# EAGLE library part USB-MICRO-B (library wimax-cpe)
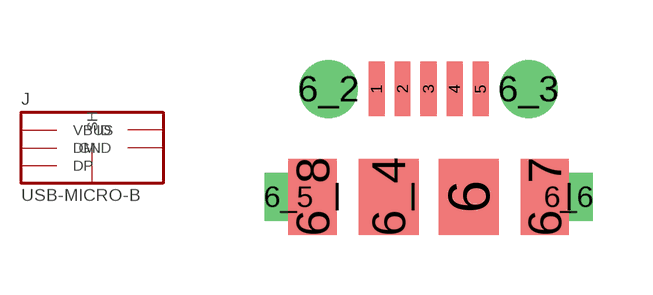
[diagram p0: symbol with the pads of USBMB; footprint USBMB]

Designator prefix J

## USB-MICRO-B  [USBMB]
1  VBUS
2  DM
3  DP
4  ID
5  GND
6  SH
6_2  SH
6_3  SH
6_4  SH
6_5  SH
6_6  SH
6_7  SH
6_8  SH

## Footprint USBMB (pad centres in mm)
Molex 105017-0001 USB Micro-B receptacle — upstream host connection
smd 0.4 x 1.35: 1 -1.3,1.462; 2 -0.65,1.462; 3 0,1.462; 4 0.65,1.462; 5 1.3,1.462
smd 1.5 x 1.9: 6 1,-1.238; 6_4 -1,-1.238
drill 0.85 pad 1.45: 6_2 -2.5,1.462; 6_3 2.5,1.462
drill 0.6 pad 1.2 square: 6_5 -3.5,-1.238; 6_6 3.5,-1.238
smd 1.2 x 1.9: 6_7 2.9,-1.238; 6_8 -2.9,-1.238